# Altium schematic symbol library 比较器.SchLib: 3 symbols
Pins are listed as number, name and electrical type; pins without a type are passive.

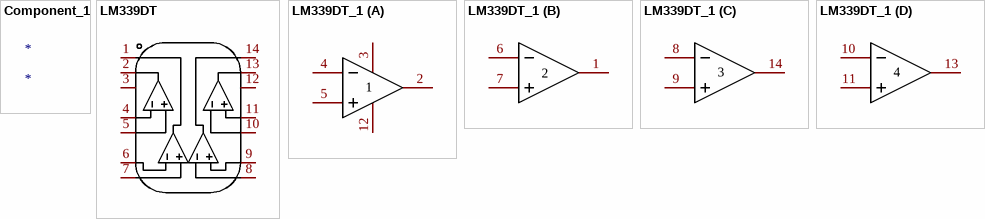
[diagram p0: symbols Component_1 to LM339DT_1]

## Component_1
designator *

## LM339DT
designator U??  (value not drawn)
Manufacturer: ST(意法半导体); Add into BOM: yes; Number of Elements: 4; Supply Voltage（Single）: 2V ~ 32V, ±1V ~ 16V; Iq per channel (Typ): 2.5mA; Output Type: CMOS, DTL, ECL, MOS, Open-Collector, TTL; Name: LM339DT; Symbol: LM339DT; Device: LM339DT; LCSC Part Name: LM339DT; Supplier Part: C71036; Manufacturer Part: LM339DT; Supplier Footprint: SO14; JLCPCB Part Class: Extended Part; Datasheet: https://atta.szlcsc.com/upload/public/pdf/source/20160408/1460100649765.pdf; Supplier: LCSC; Convert to PCB: yes; Propagation Delay (Max): -; Operating Temperature: 0°C ~ 70°C
footprint SOIC-14_L8.7-W3.9-P1.27-LS6.0-BL
3D model SOIC-14_L8.6-W3.9-H1.8-LS6.0-P1.27
pins: 1 OUTPUT2, 2 OUTPUT1, 3 VDD, 4 Inverting input1, 5 Non-inverting input1, 6 Inverting input2, 7 Non-inverting input2, 8 Inverting input3, 9 Non-inverting input3, 10 Inverting input4, 11 Non-inverting input4, 12 GND, 13 OUTPUT4, 14 OUTPUT3

## LM339DT_1
designator U??, comment LM324DT  (value not drawn)
Manufacturer: ST(意法半导体); Add into BOM: yes; Amplifier Type: General Purpose; Number of Circuits: 4; Gain Bandwidth Product（GBP）: 1.3MHz; Slew Rate（SR）: 0.4 V/us; Supply Voltage（Single）: 3V ~ 32V, ±1.5V ~ 16V; Iq per channel (Typ): 1.5mA; Name: LM324DT; Symbol: LM324DT; Device: LM324DT; LCSC Part Name: LM324DT; Supplier Part: C71035; Manufacturer Part: LM324DT; Supplier Footprint: SOIC-14_150mil; JLCPCB Part Class: Basic Part; Datasheet: https://atta.szlcsc.com/upload/public/pdf/source/20160408/1460100649718.pdf; Supplier: LCSC; Convert to PCB: yes; Output Type: -; Operating Temperature: 0°C ~ 70°C
footprint SOIC-14_L8.7-W3.9-P1.27-LS6.0-BL
3D model SOIC-14_L8.6-W3.9-H1.8-LS6.0-P1.27
footprint SOIC-14_L8.7-W3.9-P1.27-LS6.0-BL
part A pins: 2 OUT1, 3 VCC+, 4 IN1-, 5 IN1+, 12 VCC-
part B pins: 1 OUT2, 6 IN2-, 7 IN2+
part C pins: 8 IN3-, 9 IN3+, 14 OUT3
part D pins: 10 IN4-, 11 IN4+, 13 OUT4